# Altium schematic symbol library triacs.SchLib: 1 symbol
Pins are listed as number, name and electrical type; pins without a type are passive.

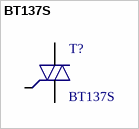
[diagram p0: symbol BT137S]

## BT137S
designator T?
4Q Triac; Value: BT137S
footprint D-PAK
pins: 1 T1, 2 T2, 3 GATE